# Altium schematic symbol library RESISTORS.SchLib: 145 symbols
Pins are listed as number, name and electrical type; pins without a type are passive.

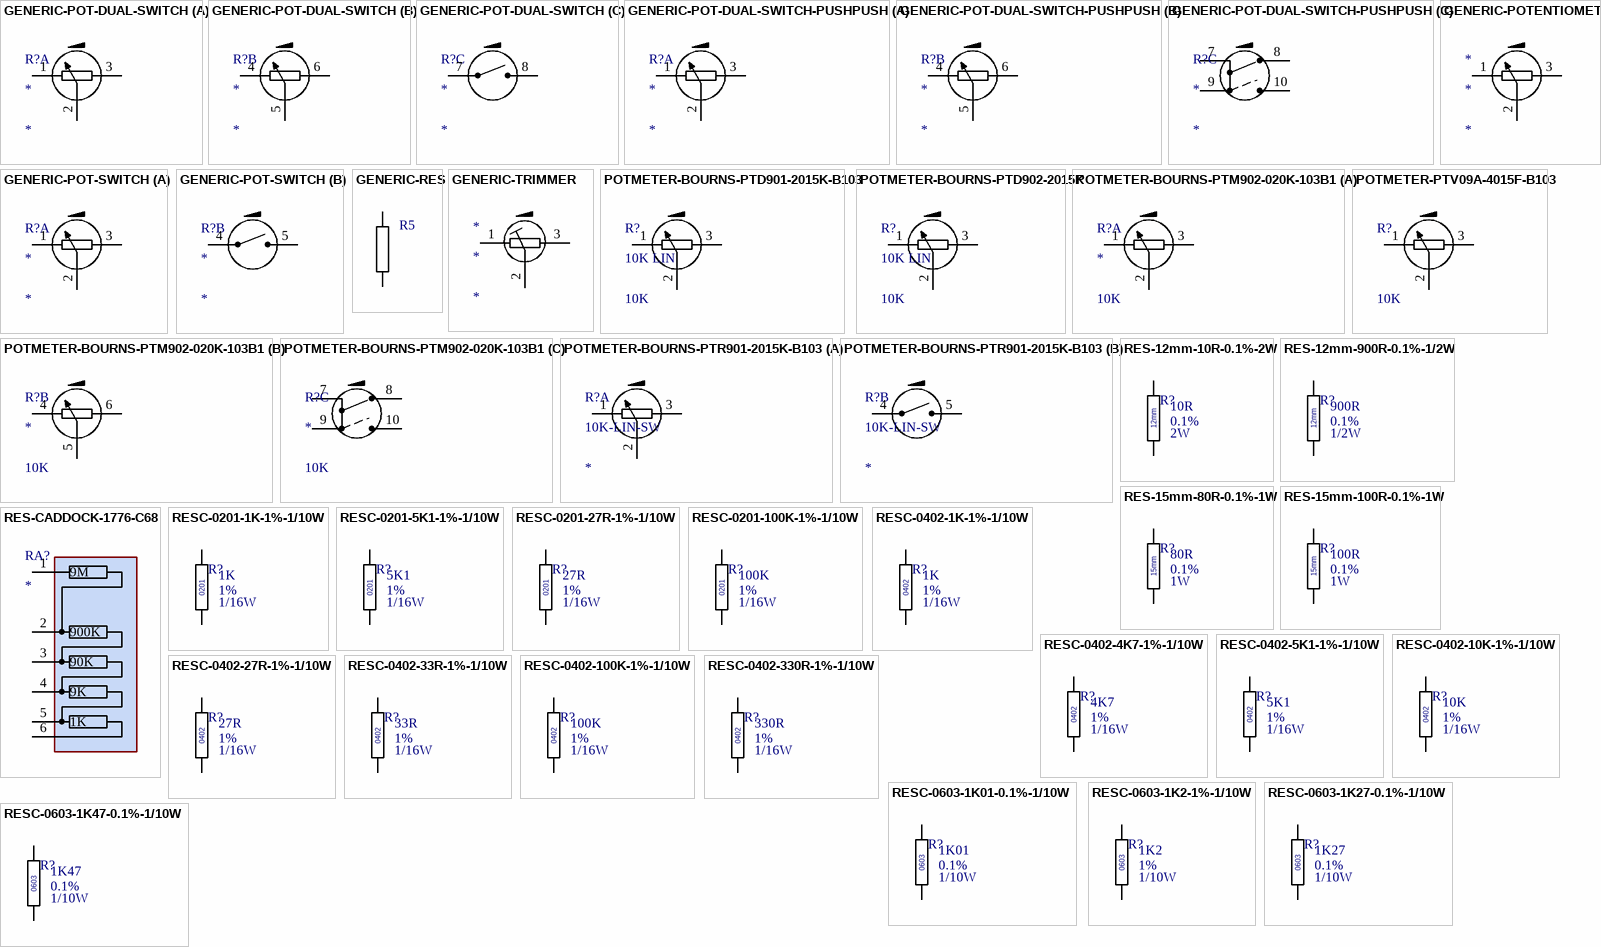
[diagram p0: symbols GENERIC-POT-DUAL-SWITCH to RESC-0603-1K47-0.1%-1/10W]

## GENERIC-POT-DUAL-SWITCH
designator R?
Value: *
part A pins: 1, 2, 3
part B pins: 4, 5, 6
part C pins: 7, 8

## GENERIC-POT-DUAL-SWITCH-PUSHPUSH
designator R?
POTENTIOMETER,DUAL,SWITCH PUSH/PUSH; Value: *
part A pins: 1, 2, 3
part B pins: 4, 5, 6
part C pins: 7, 8, 9, 10

## GENERIC-POT-SWITCH
designator R?
Value: *
part A pins: 1, 2, 3
part B pins: 4, 5

## GENERIC-POTENTIOMETER
designator *
Value: *
pins: 1, 2, 3

## GENERIC-RES
designator R5  (value not drawn)
footprint RES-YAGEO-FMP300 (YAGEO FMP300, 3W, 20mm Pitch, 6mm Body Dia)
footprint RES-YAGEO-FMP300-VERT (YAGEO FMP300, 3W, 4mm Pitch, 6mm Body Dia, VERTICAL)
pins: 1, 2

## GENERIC-TRIMMER
designator *
Value: *
pins: 1, 2, 3

## POTMETER-BOURNS-PTD901-2015K-B103
designator R?, comment 10K LIN  value 10K
RES,POT,HOR,TH,10K,LIN,BOURNS,PTD901-2015K-B103; Manufacturer 1: BOURNS; Manufacturer Part Number 1: PTD901-2015K-B103
footprint POTMETER-BOURNS-PTD901-2015K
pins: 1, 2, 3

## POTMETER-BOURNS-PTD902-2015K
designator R?, comment 10K LIN  value 10K
RES,POT,HOR,TH,10K,LIN,STEREO,BOURNS,PTD902-2015K-B103; Manufacturer 1: BOURNS; Manufacturer Part Number 1: PTD902-2015K-B103
footprint POTMETER-BOURNS-PTD902-2015K
pins: 1, 2, 3

## POTMETER-BOURNS-PTM902-020K-103B1
designator R?  value 10K
POTENTIOMETER,10K DUAL,SWITCH PUSH/PUSH
part A pins: 1, 2, 3
part B pins: 4, 5, 6
part C pins: 7, 8, 9, 10

## POTMETER-BOURNS-PTR901-2015K-B103
designator R?, comment 10K-LIN-SW
RES,POT,RA,TH,SWITCH ON/OFF,BOURNS PTR901-2015K-B103; Value: *
footprint POTMETER-BOURNS-PTR901-2X15K
part A pins: 1, 2, 3
part B pins: 4, 5

## POTMETER-PTV09A-4015F-B103
designator R?  value 10K  (hidden comment: *)
RES,POT,VERT,TH,BOURNS PTV09A-4015F,10K
footprint POTMETER-PTV09A-4015F-BXXX
pins: 1, 2, 3

## RES-12mm-10R-0.1%-2W
designator R?, comment value 10R  Power: 2W  Tolerance: 0.1%  (hidden comment: RESC1206)
RESISTOR,10R,TH12mm,0.1%,2W,0805; Manufacturer 1: VISHAY; Manufacturer Part Number 1: CPF210R000BHB14; Location: *; Parameter 4: *
footprint RESC1206 (RESISTOR, CHIP 1206 (3216))
pins: 1, 2
text: 12mm

## RES-12mm-900R-0.1%-1/2W
designator R?, comment value 900R  Power: 1/2W  Tolerance: 0.1%  (hidden comment: RESC1206)
RESISTOR,900R,TH12mm,0.1%,1/2W,0805; Manufacturer 1: VISHAY; Manufacturer Part Number 1: CMF55900R00BHEB; Location: *; Parameter 4: *
footprint RESC1206 (RESISTOR, CHIP 1206 (3216))
pins: 1, 2
text: 12mm

## RES-15mm-80R-0.1%-1W
designator R?, comment value 80R  Power: 1W  Tolerance: 0.1%  (hidden comment: RESC1206)
RESISTOR,80R,TH15mm,0.1%,1W,CMF60; Manufacturer 1: VISHAY; Manufacturer Part Number 1: CMF6080R000BHEB; Location: *; Parameter 4: *
footprint RESC1206 (RESISTOR, CHIP 1206 (3216))
pins: 1, 2
text: 15mm

## RES-15mm-100R-0.1%-1W
designator R?, comment value 100R  Power: 1W  Tolerance: 0.1%  (hidden comment: RESC1206)
RESISTOR,100R,TH15mm,0.1%,1W,CMF60; Manufacturer 1: VISHAY; Manufacturer Part Number 1: CMF60100R00BHEB; Location: *; Parameter 4: *
footprint RESC1206 (RESISTOR, CHIP 1206 (3216))
pins: 1, 2
text: 15mm

## RES-CADDOCK-1776-C68
designator RA?
CADDOCK 1776-C68 VOLTAGE DIVIDER
pins: 1 9M, 2 900K, 3 90K, 4 9K, 5 1K, 6 COM

## RESC-0201-1K-1%-1/10W
designator R?, comment value 1K  Power: 1/16W  Tolerance: 1%  (hidden comment: RESC0201)
RESISTOR,1K,1%,63mW,0201; Location: *; LCSC: C138165
footprint RESC0201 (RES, 0201 Chip Resistor, 2-Leads, Body 0.60x0.30mm, IPC High Density)
pins: 1, 2
text: 0201

## RESC-0201-5K1-1%-1/10W
designator R?, comment value 5K1  Power: 1/16W  Tolerance: 1%  (hidden comment: RESC0201)
RESISTOR,5K1,1%,63mW,0201; Location: *; LCSC: C274341
footprint RESC0201 (RES, 0201 Chip Resistor, 2-Leads, Body 0.60x0.30mm, IPC High Density)
pins: 1, 2
text: 0201

## RESC-0201-27R-1%-1/10W
designator R?, comment value 27R  Power: 1/16W  Tolerance: 1%  (hidden comment: RESC0201)
RESISTOR,27R,1%,63mW,0201; Location: *; LCSC: C473051
footprint RESC0201 (RES, 0201 Chip Resistor, 2-Leads, Body 0.60x0.30mm, IPC High Density)
pins: 1, 2
text: 0201

## RESC-0201-100K-1%-1/10W
designator R?, comment value 100K  Power: 1/16W  Tolerance: 1%  (hidden comment: RESC0201)
RESISTOR,100K,1%,63mW,0201; Location: *; LCSC: C106224
footprint RESC0201 (RES, 0201 Chip Resistor, 2-Leads, Body 0.60x0.30mm, IPC High Density)
pins: 1, 2
text: 0201

## RESC-0402-1K-1%-1/10W
designator R?, comment value 1K  Power: 1/16W  Tolerance: 1%  (hidden comment: RESC0402)
RESISTOR,1K,1%,63mW,0402 (1005); Manufacturer 1: UNIROYAL; Manufacturer Part Number 1: 0402WGF1001TCE; Location: *; LCSC: C11702
footprint RESC0402 (RESISTOR, CHIP 0402 (1005))
pins: 1, 2
text: 0402

## RESC-0402-4K7-1%-1/10W
designator R?, comment value 4K7  Power: 1/16W  Tolerance: 1%  (hidden comment: RESC0402)
RESISTOR,4K7,1%,63mW,0402 (1005); Location: *; LCSC: C105871; Supplier 1: Future Electronics; Supplier Part Number 1: 3795218
footprint RESC0402 (RESISTOR, CHIP 0402 (1005))
pins: 1, 2
text: 0402

## RESC-0402-5K1-1%-1/10W
designator R?, comment value 5K1  Power: 1/16W  Tolerance: 1%  (hidden comment: RESC0402)
RESISTOR,5K1,1%,63mW,0402 (1005); Manufacturer 1: UNIROYAL; Manufacturer Part Number 1: 0402WGF5101TCE; Location: *; LCSC: C25905
footprint RESC0402 (RESISTOR, CHIP 0402 (1005))
pins: 1, 2
text: 0402

## RESC-0402-10K-1%-1/10W
designator R?, comment value 10K  Power: 1/16W  Tolerance: 1%  (hidden comment: RESC0402)
RESISTOR,10K,1%,63mW,0402 (1005); Manufacturer 1: UNIROYAL; Manufacturer Part Number 1: 0402WGF1002TCE; Location: *; LCSC: C25744
footprint RESC0402 (RESISTOR, CHIP 0402 (1005))
pins: 1, 2
text: 0402

## RESC-0402-27R-1%-1/10W
designator R?, comment value 27R  Power: 1/16W  Tolerance: 1%  (hidden comment: RESC0402)
RESISTOR,27R,1%,63mW,0402 (1005); Location: *; Supplier 1: Future Electronics; Supplier Part Number 1: 2577120; LCSC: C138021
footprint RESC0402 (RESISTOR, CHIP 0402 (1005))
pins: 1, 2
text: 0402

## RESC-0402-33R-1%-1/10W
designator R?, comment value 33R  Power: 1/16W  Tolerance: 1%  (hidden comment: RESC0402)
RESISTOR,33R,1%,63mW,0402 (1005); Location: *; LCSC: C138002; Supplier 1: Future Electronics; Supplier Part Number 1: 8177883
footprint RESC0402 (RESISTOR, CHIP 0402 (1005))
pins: 1, 2
text: 0402

## RESC-0402-100K-1%-1/10W
designator R?, comment value 100K  Power: 1/16W  Tolerance: 1%  (hidden comment: RESC0402)
RESISTOR,100K,1%,63mW,0402 (1005); Manufacturer 1: UNIROYAL; Manufacturer Part Number 1: 0402WGF1003TCE; Location: *; LCSC: C25741
footprint RESC0402 (RESISTOR, CHIP 0402 (1005))
pins: 1, 2
text: 0402

## RESC-0402-330R-1%-1/10W
designator R?, comment value 330R  Power: 1/16W  Tolerance: 1%  (hidden comment: RESC0402)
RESISTOR,330R,1%,63mW,0402 (1005); Manufacturer 1: YAGEO; Manufacturer Part Number 1: RC0402FR-07330RL; Location: *; LCSC: C105875
footprint RESC0402 (RESISTOR, CHIP 0402 (1005))
pins: 1, 2
text: 0402

## RESC-0603-1K01-0.1%-1/10W
designator R?, comment value 1K01  Power: 1/10W  Tolerance: 0.1%  (hidden comment: RESC0603)
RESISTOR,1K01,0.1%,100mW,0603 (1608); Location: *
footprint RESC0603 (RESISTOR, CHIP 0603 (1608))
pins: 1, 2
text: 0603

## RESC-0603-1K2-1%-1/10W
designator R?, comment value 1K2  Power: 1/10W  Tolerance: 1%  (hidden comment: RESC0603)
RESISTOR,1K2,1%,100mW,0603 (1608); Manufacturer 1: STACKPOLE; Manufacturer Part Number 1: RMCF0603FT1K20; Location: *; Supplier 1: Digikey; Supplier Part Number 1: RMCF0603FT12K0CT-ND; Supplier 2: Digikey; Supplier Part Number 2: 2019-RK73H1JTTD1202FCT-ND; Supplier 3: Avnet; Supplier Part Number 3: 73AC9048; Supplier 4: Digikey; Supplier Part Number 4: 13-AC0603FR-1012KLCT-ND; MOUSER: 708-RMCF0603FT1K20
footprint RESC0603 (RESISTOR, CHIP 0603 (1608))
pins: 1, 2
text: 0603

## RESC-0603-1K27-0.1%-1/10W
designator R?, comment value 1K27  Power: 1/10W  Tolerance: 0.1%  (hidden comment: RESC0603)
RESISTOR,1K27,0.1%,100mW,0603 (1608); Location: *
footprint RESC0603 (RESISTOR, CHIP 0603 (1608))
pins: 1, 2
text: 0603

## RESC-0603-1K47-0.1%-1/10W
designator R?, comment value 1K47  Power: 1/10W  Tolerance: 0.1%  (hidden comment: RESC0603)
RESISTOR,1K47,0.1%,100mW,0603 (1608); Location: *
footprint RESC0603 (RESISTOR, CHIP 0603 (1608))
pins: 1, 2
text: 0603

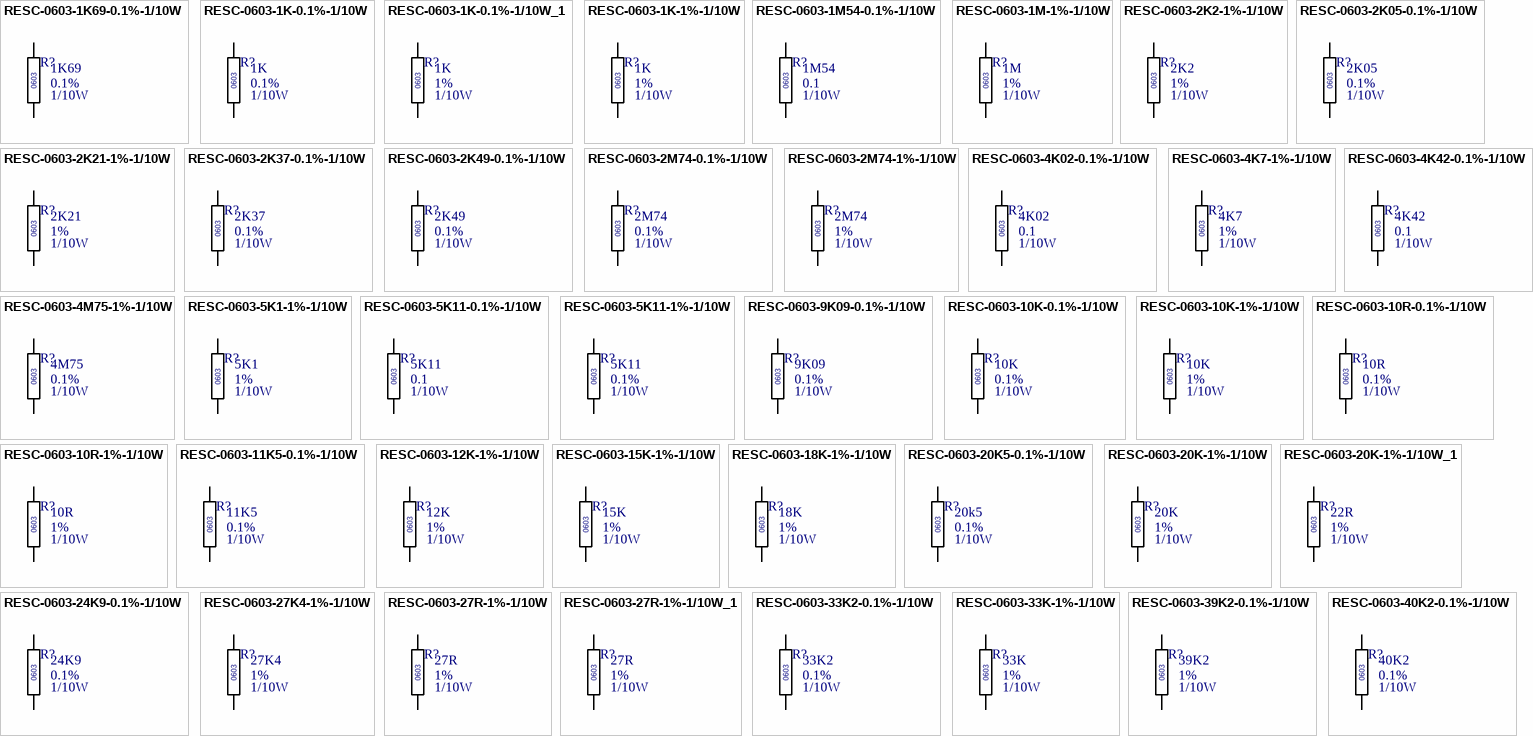
[diagram p1: symbols RESC-0603-1K69-0.1%-1/10W to RESC-0603-40K2-0.1%-1/10W]

## RESC-0603-1K69-0.1%-1/10W
designator R?, comment value 1K69  Power: 1/10W  Tolerance: 0.1%  (hidden comment: RESC0603)
RESISTOR,1K69,0.1%,100mW,0603 (1608); Location: *
footprint RESC0603 (RESISTOR, CHIP 0603 (1608))
pins: 1, 2
text: 0603

## RESC-0603-1K-0.1%-1/10W
designator R?, comment value 1K  Power: 1/10W  Tolerance: 0.1%  (hidden comment: RESC0603)
RESISTOR,1K,0.1%,100mW,0603 (1608); Location: *
footprint RESC0603 (RESISTOR, CHIP 0603 (1608))
pins: 1, 2
text: 0603

## RESC-0603-1K-0.1%-1/10W_1
designator R?, comment value 1K  Power: 1/10W  Tolerance: 1%  (hidden comment: RESC0603)
RESISTOR,1K,1%,100mW,0603 (1608); Manufacturer 1: YAGEO; Manufacturer Part Number 1: RC0603FR-071KL; Location: *; LCSC: C22548; MOUSER: 603-RC0603FR-071KL
footprint RESC0603 (RESISTOR, CHIP 0603 (1608))
pins: 1, 2
text: 0603

## RESC-0603-1K-1%-1/10W
designator R?, comment value 1K  Power: 1/10W  Tolerance: 1%  (hidden comment: RESC0603)
RESISTOR,1K,1%,100mW,0603 (1608); Manufacturer 1: YAGEO; Manufacturer Part Number 1: RC0603FR-071KL; Location: *; LCSC: C21190; MOUSER: 603-RC0603FR-071KL
footprint RESC0603 (RESISTOR, CHIP 0603 (1608))
pins: 1, 2
text: 0603

## RESC-0603-1M54-0.1%-1/10W
designator R?, comment value 1M54  Power: 1/10W  Tolerance: 0.1  (hidden comment: RESC0603)
RESISTOR,1M54,0.1%,100mW,0603 (1608); Location: *
footprint RESC0603 (RESISTOR, CHIP 0603 (1608))
pins: 1, 2
text: 0603

## RESC-0603-1M-1%-1/10W
designator R?, comment value 1M  Power: 1/10W  Tolerance: 1%  (hidden comment: RESC0603)
RESISTOR,1M,1%,100mW,0603 (1608); Location: *; Supplier 1: Future Electronics; Supplier Part Number 1: 2912863; Supplier 2: Mouser; Supplier Part Number 2: 667-ERJ-3EKF1004V; Supplier 3: Avnet; Supplier Part Number 3: 6-2176339-1; LCSC: C105578
footprint RESC0603 (RESISTOR, CHIP 0603 (1608))
pins: 1, 2
text: 0603

## RESC-0603-2K2-1%-1/10W
designator R?, comment value 2K2  Power: 1/10W  Tolerance: 1%  (hidden comment: RESC0603)
RESISTOR,2K2,1%,100mW,0603 (1608); Location: *; LCSC: C4190
footprint RESC0603 (RESISTOR, CHIP 0603 (1608))
pins: 1, 2
text: 0603

## RESC-0603-2K05-0.1%-1/10W
designator R?, comment value 2K05  Power: 1/10W  Tolerance: 0.1%  (hidden comment: RESC0603)
RESISTOR,2K05,0.11%,100mW,0603 (1608); Location: *
footprint RESC0603 (RESISTOR, CHIP 0603 (1608))
pins: 1, 2
text: 0603

## RESC-0603-2K21-1%-1/10W
designator R?, comment value 2K21  Power: 1/10W  Tolerance: 1%  (hidden comment: RESC0603)
RESISTOR,2K21,1%,100mW,0603 (1608); Location: *; LCSC: C105588; Supplier 1: Digikey; Supplier Part Number 1: 311-100HRCT-ND
footprint RESC0603 (RESISTOR, CHIP 0603 (1608))
pins: 1, 2
text: 0603

## RESC-0603-2K37-0.1%-1/10W
designator R?, comment value 2K37  Power: 1/10W  Tolerance: 0.1%  (hidden comment: RESC0603)
RESISTOR,2K37,0.1%,100mW,0603 (1608); Location: *
footprint RESC0603 (RESISTOR, CHIP 0603 (1608))
pins: 1, 2
text: 0603

## RESC-0603-2K49-0.1%-1/10W
designator R?, comment value 2K49  Power: 1/10W  Tolerance: 0.1%  (hidden comment: RESC0603)
RESISTOR,2K49,0.1%,100mW,0603 (1608); Location: *
footprint RESC0603 (RESISTOR, CHIP 0603 (1608))
pins: 1, 2
text: 0603

## RESC-0603-2M74-0.1%-1/10W
designator R?, comment value 2M74  Power: 1/10W  Tolerance: 0.1%  (hidden comment: RESC0603)
RESISTOR,2M74,0.1%,100mW,0603 (1608); Location: *
footprint RESC0603 (RESISTOR, CHIP 0603 (1608))
pins: 1, 2
text: 0603

## RESC-0603-2M74-1%-1/10W
designator R?, comment value 2M74  Power: 1/10W  Tolerance: 1%  (hidden comment: RESC0603)
RESISTOR,2M74,1%,100mW,0603 (1608); Location: *
footprint RESC0603 (RESISTOR, CHIP 0603 (1608))
pins: 1, 2
text: 0603

## RESC-0603-4K02-0.1%-1/10W
designator R?, comment value 4K02  Power: 1/10W  Tolerance: 0.1  (hidden comment: RESC0603)
RESISTOR,4K02,0.1%,100mW,0603 (1608); Location: *
footprint RESC0603 (RESISTOR, CHIP 0603 (1608))
pins: 1, 2
text: 0603

## RESC-0603-4K7-1%-1/10W
designator R?, comment value 4K7  Power: 1/10W  Tolerance: 1%  (hidden comment: RESC0603)
RESISTOR,4K7,1%,100mW,0603 (1608); Manufacturer 1: YAGEO; Manufacturer Part Number 1: RC0603FR-074K7L; Location: *; LCSC: C23162; MOUSER: 603-RC0603FR-074K7L
footprint RESC0603 (RESISTOR, CHIP 0603 (1608))
pins: 1, 2
text: 0603

## RESC-0603-4K42-0.1%-1/10W
designator R?, comment value 4K42  Power: 1/10W  Tolerance: 0.1  (hidden comment: RESC0603)
RESISTOR,4K42,0.1%,100mW,0603 (1608); Location: *
footprint RESC0603 (RESISTOR, CHIP 0603 (1608))
pins: 1, 2
text: 0603

## RESC-0603-4M75-1%-1/10W
designator R?, comment value 4M75  Power: 1/10W  Tolerance: 0.1%  (hidden comment: RESC0603)
RESISTOR,4M75,0.1%,100mW,0603 (1608); Location: *
footprint RESC0603 (RESISTOR, CHIP 0603 (1608))
pins: 1, 2
text: 0603

## RESC-0603-5K1-1%-1/10W
designator R?, comment value 5K1  Power: 1/10W  Tolerance: 1%  (hidden comment: RESC0603)
RESISTOR,5K1,1%,100mW,0603 (1608); Manufacturer 1: YAGEO; Manufacturer Part Number 1: RC0603FR-075K1L; Location: *; LCSC: C105580; MOUSER: 603-RC0603FR-075K1
footprint RESC0603 (RESISTOR, CHIP 0603 (1608))
pins: 1, 2
text: 0603

## RESC-0603-5K11-0.1%-1/10W
designator R?, comment value 5K11  Power: 1/10W  Tolerance: 0.1  (hidden comment: RESC0603)
RESISTOR,5K11,0.1%,100mW,0603 (1608); Location: *
footprint RESC0603 (RESISTOR, CHIP 0603 (1608))
pins: 1, 2
text: 0603

## RESC-0603-5K11-1%-1/10W
designator R?, comment value 5K11  Power: 1/10W  Tolerance: 0.1%  (hidden comment: RESC0603)
RESISTOR,5K11,0.1%,100mW,0603 (1608); Location: *
footprint RESC0603 (RESISTOR, CHIP 0603 (1608))
pins: 1, 2
text: 0603

## RESC-0603-9K09-0.1%-1/10W
designator R?, comment value 9K09  Power: 1/10W  Tolerance: 0.1%  (hidden comment: RESC0603)
RESISTOR,9K09,0.1%,100mW,0603 (1608); Location: *
footprint RESC0603 (RESISTOR, CHIP 0603 (1608))
pins: 1, 2
text: 0603

## RESC-0603-10K-0.1%-1/10W
designator R?, comment value 10K  Power: 1/10W  Tolerance: 0.1%  (hidden comment: RESC0603)
RESISTOR,10K,0.1%,100mW,0603 (1608); Manufacturer 1: PANASONIC; Manufacturer Part Number 1: ERA-3AEB103V; Location: *; DIGIKEY: P10KDBCT-ND
footprint RESC0603 (RESISTOR, CHIP 0603 (1608))
pins: 1, 2
text: 0603

## RESC-0603-10K-1%-1/10W
designator R?, comment value 10K  Power: 1/10W  Tolerance: 1%  (hidden comment: RESC0603)
RESISTOR,10K,1%,100mW,0603 (1608); Manufacturer 1: YAGEO; Manufacturer Part Number 1: RC0603FR-0710KL; Location: *; LCSC: C25804; MOUSER: 603-RC0603FR-0710KL
footprint RESC0603 (RESISTOR, CHIP 0603 (1608))
pins: 1, 2
text: 0603

## RESC-0603-10R-0.1%-1/10W
designator R?, comment value 10R  Power: 1/10W  Tolerance: 0.1%  (hidden comment: RESC0603)
RESISTOR,10R,0.1%,100mW,0603 (1608); Manufacturer 1: STACKPOLE; Manufacturer Part Number 1: RNCE0603BTE10R0; Location: *
footprint RESC0603 (RESISTOR, CHIP 0603 (1608))
pins: 1, 2
text: 0603

## RESC-0603-10R-1%-1/10W
designator R?, comment value 10R  Power: 1/10W  Tolerance: 1%  (hidden comment: RESC0603)
RESISTOR,10R,1%,100mW,0603 (1608); Location: *
footprint RESC0603 (RESISTOR, CHIP 0603 (1608))
pins: 1, 2
text: 0603

## RESC-0603-11K5-0.1%-1/10W
designator R?, comment value 11K5  Power: 1/10W  Tolerance: 0.1%  (hidden comment: RESC0603)
RESISTOR,11K5,0.1%,100mW,0603 (1608); Location: *
footprint RESC0603 (RESISTOR, CHIP 0603 (1608))
pins: 1, 2
text: 0603

## RESC-0603-12K-1%-1/10W
designator R?, comment value 12K  Power: 1/10W  Tolerance: 1%  (hidden comment: RESC0603)
RESISTOR,12K,1%,100mW,0603 (1608); Manufacturer 1: STACKPOLE; Manufacturer Part Number 1: RMCF0603FT12K0; Location: *; LCSC: C22790; MOUSER: 708-RMCF0603FT12K0
footprint RESC0603 (RESISTOR, CHIP 0603 (1608))
pins: 1, 2
text: 0603

## RESC-0603-15K-1%-1/10W
designator R?, comment value 15K  Power: 1/10W  Tolerance: 1%  (hidden comment: RESC0603)
RESISTOR,15K,1%,100mW,0603 (1608); Location: *
footprint RESC0603 (RESISTOR, CHIP 0603 (1608))
pins: 1, 2
text: 0603

## RESC-0603-18K-1%-1/10W
designator R?, comment value 18K  Power: 1/10W  Tolerance: 1%  (hidden comment: RESC0603)
RESISTOR,18K,1%,100mW,0603 (1608); Location: *; LCSC: C25810
footprint RESC0603 (RESISTOR, CHIP 0603 (1608))
pins: 1, 2
text: 0603

## RESC-0603-20K5-0.1%-1/10W
designator R?, comment value 20k5  Power: 1/10W  Tolerance: 0.1%  (hidden comment: RESC0603)
RESISTOR,20K5,0.1%,100mW,0603 (1608); Location: *
footprint RESC0603 (RESISTOR, CHIP 0603 (1608))
pins: 1, 2
text: 0603

## RESC-0603-20K-1%-1/10W
designator R?, comment value 20K  Power: 1/10W  Tolerance: 1%  (hidden comment: RESC0603)
RESISTOR,20K,1%,100mW,0603 (1608); Location: *; LCSC: C105588; Supplier 1: Digikey; Supplier Part Number 1: 311-100HRCT-ND
footprint RESC0603 (RESISTOR, CHIP 0603 (1608))
pins: 1, 2
text: 0603

## RESC-0603-20K-1%-1/10W_1
designator R?, comment value 22R  Power: 1/10W  Tolerance: 1%  (hidden comment: RESC0603)
RESISTOR,22R,1%,100mW,0603 (1608); Location: *; LCSC: C23345
footprint RESC0603 (RESISTOR, CHIP 0603 (1608))
pins: 1, 2
text: 0603

## RESC-0603-24K9-0.1%-1/10W
designator R?, comment value 24K9  Power: 1/10W  Tolerance: 0.1%  (hidden comment: RESC0603)
RESISTOR,24K9,0.1%,100mW,0603 (1608); Location: *
footprint RESC0603 (RESISTOR, CHIP 0603 (1608))
pins: 1, 2
text: 0603

## RESC-0603-27K4-1%-1/10W
designator R?, comment value 27K4  Power: 1/10W  Tolerance: 1%  (hidden comment: RESC0603)
RESISTOR,27K4,1%,100mW,0603 (1608); Location: *
footprint RESC0603 (RESISTOR, CHIP 0603 (1608))
pins: 1, 2
text: 0603

## RESC-0603-27R-1%-1/10W
designator R?, comment value 27R  Power: 1/10W  Tolerance: 1%  (hidden comment: RESC0603)
RESISTOR,27R,1%,100mW,0603 (1608); Manufacturer 1: YAGEO; Manufacturer Part Number 1: RC0603FR-0727RL; Location: *; LCSC: C137753; MOUSER: 603-RC0603FR-0727RL
footprint RESC0603 (RESISTOR, CHIP 0603 (1608))
pins: 1, 2
text: 0603

## RESC-0603-27R-1%-1/10W_1
designator R?, comment value 27R  Power: 1/10W  Tolerance: 1%  (hidden comment: RESC0603)
RESISTOR,27R,1%,100mW,0603 (1608); Manufacturer 1: YAGEO; Manufacturer Part Number 1: RC0603FR-0727RL; Location: *; LCSC: C137753
footprint RESC0603 (RESISTOR, CHIP 0603 (1608))
pins: 1, 2
text: 0603

## RESC-0603-33K2-0.1%-1/10W
designator R?, comment value 33K2  Power: 1/10W  Tolerance: 0.1%  (hidden comment: RESC0603)
RESISTOR,33K2,0.1%,100mW,0603 (1608); Location: *
footprint RESC0603 (RESISTOR, CHIP 0603 (1608))
pins: 1, 2
text: 0603

## RESC-0603-33K-1%-1/10W
designator R?, comment value 33K  Power: 1/10W  Tolerance: 1%  (hidden comment: RESC0603)
RESISTOR,33K,1%,100mW,0603 (1608); Location: *
footprint RESC0603 (RESISTOR, CHIP 0603 (1608))
pins: 1, 2
text: 0603

## RESC-0603-39K2-0.1%-1/10W
designator R?, comment value 39K2  Power: 1/10W  Tolerance: 1%  (hidden comment: RESC0603)
RESISTOR,39K2,0.1%,100mW,0603 (1608); Location: *
footprint RESC0603 (RESISTOR, CHIP 0603 (1608))
pins: 1, 2
text: 0603

## RESC-0603-40K2-0.1%-1/10W
designator R?, comment value 40K2  Power: 1/10W  Tolerance: 0.1%  (hidden comment: RESC0603)
RESISTOR,40K2,0.1%,100mW,0603 (1608); Location: *
footprint RESC0603 (RESISTOR, CHIP 0603 (1608))
pins: 1, 2
text: 0603

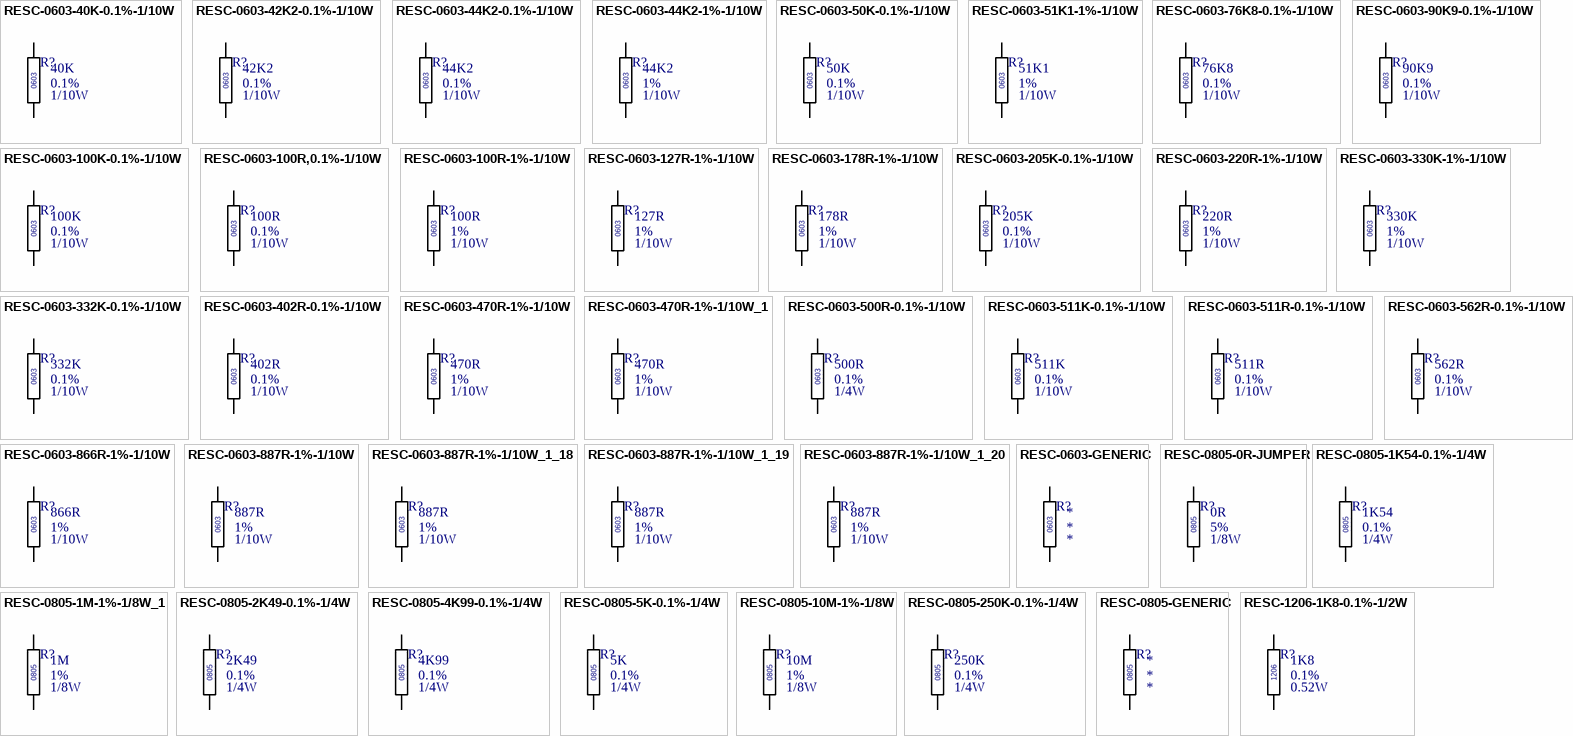
[diagram p2: symbols RESC-0603-40K-0.1%-1/10W to RESC-1206-1K8-0.1%-1/2W]

## RESC-0603-40K-0.1%-1/10W
designator R?, comment value 40K  Power: 1/10W  Tolerance: 0.1%  (hidden comment: RESC0603)
RESISTOR,40K,0.1%,100mW,0603 (1608); Manufacturer 1: YAGEO; Manufacturer Part Number 1: RT0603BRD0740KL; Location: *
footprint RESC0603 (RESISTOR, CHIP 0603 (1608))
pins: 1, 2
text: 0603

## RESC-0603-42K2-0.1%-1/10W
designator R?, comment value 42K2  Power: 1/10W  Tolerance: 0.1%  (hidden comment: RESC0603)
RESISTOR,42K2,0.1%,100mW,0603 (1608); Location: *
footprint RESC0603 (RESISTOR, CHIP 0603 (1608))
pins: 1, 2
text: 0603

## RESC-0603-44K2-0.1%-1/10W
designator R?, comment value 44K2  Power: 1/10W  Tolerance: 0.1%  (hidden comment: RESC0603)
RESISTOR,44K2,0.1%,100mW,0603 (1608); Location: *
footprint RESC0603 (RESISTOR, CHIP 0603 (1608))
pins: 1, 2
text: 0603

## RESC-0603-44K2-1%-1/10W
designator R?, comment value 44K2  Power: 1/10W  Tolerance: 1%  (hidden comment: RESC0603)
RESISTOR,44K2,1%,100mW,0603 (1608); Location: *
footprint RESC0603 (RESISTOR, CHIP 0603 (1608))
pins: 1, 2
text: 0603

## RESC-0603-50K-0.1%-1/10W
designator R?, comment value 50K  Power: 1/10W  Tolerance: 0.1%  (hidden comment: RESC0603)
RESISTOR,50K,0.1%,100mW,0603 (1608); Location: *
footprint RESC0603 (RESISTOR, CHIP 0603 (1608))
pins: 1, 2
text: 0603

## RESC-0603-51K1-1%-1/10W
designator R?, comment value 51K1  Power: 1/10W  Tolerance: 1%  (hidden comment: RESC0603)
RESISTOR,51K1,1%,100mW,0603 (1608); Location: *
footprint RESC0603 (RESISTOR, CHIP 0603 (1608))
pins: 1, 2
text: 0603

## RESC-0603-76K8-0.1%-1/10W
designator R?, comment value 76K8  Power: 1/10W  Tolerance: 0.1%  (hidden comment: RESC0603)
RESISTOR,76K8,0.1%,100mW,0603 (1608); Location: *
footprint RESC0603 (RESISTOR, CHIP 0603 (1608))
pins: 1, 2
text: 0603

## RESC-0603-90K9-0.1%-1/10W
designator R?, comment value 90K9  Power: 1/10W  Tolerance: 0.1%  (hidden comment: RESC0603)
RESISTOR,90K9,0.1%,100mW,0603 (1608); Location: *
footprint RESC0603 (RESISTOR, CHIP 0603 (1608))
pins: 1, 2
text: 0603

## RESC-0603-100K-0.1%-1/10W
designator R?, comment value 100K  Power: 1/10W  Tolerance: 0.1%  (hidden comment: RESC0603)
RESISTOR,100K,0.1%,100mW,0603 (1608); Location: *
footprint RESC0603 (RESISTOR, CHIP 0603 (1608))
pins: 1, 2
text: 0603

## RESC-0603-100R,0.1%-1/10W
designator R?, comment value 100R  Power: 1/10W  Tolerance: 0.1%  (hidden comment: RESC0603)
RESISTOR,100R,0.1%,100mW,0603 (1608); Location: *
footprint RESC0603 (RESISTOR, CHIP 0603 (1608))
pins: 1, 2
text: 0603

## RESC-0603-100R-1%-1/10W
designator R?, comment value 100R  Power: 1/10W  Tolerance: 1%  (hidden comment: RESC0603)
RESISTOR,100R,1%,100mW,0603 (1608); Location: *; LCSC: C105588; Supplier 1: Digikey; Supplier Part Number 1: 311-100HRCT-ND
footprint RESC0603 (RESISTOR, CHIP 0603 (1608))
pins: 1, 2
text: 0603

## RESC-0603-127R-1%-1/10W
designator R?, comment value 127R  Power: 1/10W  Tolerance: 1%  (hidden comment: RESC0603)
RESISTOR,127R,1%,100mW,0603 (1608); Location: *; LCSC: C105588; Supplier 1: Digikey; Supplier Part Number 1: 311-100HRCT-ND
footprint RESC0603 (RESISTOR, CHIP 0603 (1608))
pins: 1, 2
text: 0603

## RESC-0603-178R-1%-1/10W
designator R?, comment value 178R  Power: 1/10W  Tolerance: 1%  (hidden comment: RESC0603)
RESISTOR,178R,1%,100mW,0603 (1608); Location: *; LCSC: C105588; Supplier 1: Digikey; Supplier Part Number 1: 311-100HRCT-ND
footprint RESC0603 (RESISTOR, CHIP 0603 (1608))
pins: 1, 2
text: 0603

## RESC-0603-205K-0.1%-1/10W
designator R?, comment value 205K  Power: 1/10W  Tolerance: 0.1%  (hidden comment: RESC0603)
RESISTOR,205K,0.1%,100mW,0603 (1608); Location: *
footprint RESC0603 (RESISTOR, CHIP 0603 (1608))
pins: 1, 2
text: 0603

## RESC-0603-220R-1%-1/10W
designator R?, comment value 220R  Power: 1/10W  Tolerance: 1%  (hidden comment: RESC0603)
RESISTOR,220R,1%,100mW,0603 (1608); Location: *; Supplier 1: Digikey; Supplier Part Number 1: RMCF0603FT220RCT-ND; Supplier 2: Future Electronics; Supplier Part Number 2: 9705021; Supplier 3: Digikey; Supplier Part Number 3: P220HCT-ND; Supplier 4: Mouser; Supplier Part Number 4: 71-CRCW0603-220-E3
footprint RESC0603 (RESISTOR, CHIP 0603 (1608))
pins: 1, 2
text: 0603

## RESC-0603-330K-1%-1/10W
designator R?, comment value 330K  Power: 1/10W  Tolerance: 1%  (hidden comment: RESC0603)
RESISTOR,330K,1%,100mW,0603 (1608); Location: *
footprint RESC0603 (RESISTOR, CHIP 0603 (1608))
pins: 1, 2
text: 0603

## RESC-0603-332K-0.1%-1/10W
designator R?, comment value 332K  Power: 1/10W  Tolerance: 0.1%  (hidden comment: RESC0603)
RESISTOR,332K,0.1%,100mW,0603 (1608); Location: *
footprint RESC0603 (RESISTOR, CHIP 0603 (1608))
pins: 1, 2
text: 0603

## RESC-0603-402R-0.1%-1/10W
designator R?, comment value 402R  Power: 1/10W  Tolerance: 0.1%  (hidden comment: RESC0603)
RESISTOR,402R,0.1%,100mW,0603 (1608); Location: *
footprint RESC0603 (RESISTOR, CHIP 0603 (1608))
pins: 1, 2
text: 0603

## RESC-0603-470R-1%-1/10W
designator R?, comment value 470R  Power: 1/10W  Tolerance: 1%  (hidden comment: RESC0603)
RESISTOR,470R,1%,100mW,0603 (1608); Manufacturer 1: UNI-ROYAL; Manufacturer Part Number 1: 0603WAF4700T5E; Location: *; LCSC: C23179
footprint RESC0603 (RESISTOR, CHIP 0603 (1608))
pins: 1, 2
text: 0603

## RESC-0603-470R-1%-1/10W_1
designator R?, comment value 470R  Power: 1/10W  Tolerance: 1%  (hidden comment: RESC0603)
RESISTOR,470R,1%,100mW,0603 (1608); Location: *; Supplier 1: Avnet; Supplier Part Number 1: 73AC9120; Supplier 2: Mouser; Supplier Part Number 2: 71-CRCW0603470RFKEAC; Supplier 3: Digikey; Supplier Part Number 3: RMCF0603FT470RCT-ND; Supplier 4: Digikey; Supplier Part Number 4: 13-RC0603FR-13470RLCT-ND
footprint RESC0603 (RESISTOR, CHIP 0603 (1608))
pins: 1, 2
text: 0603

## RESC-0603-500R-0.1%-1/10W
designator R?, comment value 500R  Power: 1/4W  Tolerance: 0.1%  (hidden comment: RESC0603)
RESISTOR,500R,0.1%,100mW,0603; Manufacturer 1: YAGEO; Manufacturer Part Number 1: RT0603BRD07500RL; Location: *; Parameter 4: *
footprint RESC0603 (RESISTOR, CHIP 0603 (1608))
pins: 1, 2
text: 0603

## RESC-0603-511K-0.1%-1/10W
designator R?, comment value 511K  Power: 1/10W  Tolerance: 0.1%  (hidden comment: RESC0603)
RESISTOR,511K,0.1%,100mW,0603 (1608); Location: *
footprint RESC0603 (RESISTOR, CHIP 0603 (1608))
pins: 1, 2
text: 0603

## RESC-0603-511R-0.1%-1/10W
designator R?, comment value 511R  Power: 1/10W  Tolerance: 0.1%  (hidden comment: RESC0603)
RESISTOR,511R,0.1%,100mW,0603 (1608); Location: *
footprint RESC0603 (RESISTOR, CHIP 0603 (1608))
pins: 1, 2
text: 0603

## RESC-0603-562R-0.1%-1/10W
designator R?, comment value 562R  Power: 1/10W  Tolerance: 0.1%  (hidden comment: RESC0603)
RESISTOR,562R,0.1%,100mW,0603 (1608); Location: *
footprint RESC0603 (RESISTOR, CHIP 0603 (1608))
pins: 1, 2
text: 0603

## RESC-0603-866R-1%-1/10W
designator R?, comment value 866R  Power: 1/10W  Tolerance: 1%  (hidden comment: RESC0603)
RESISTOR,866R,1%,100mW,0603 (1608); Location: *
footprint RESC0603 (RESISTOR, CHIP 0603 (1608))
pins: 1, 2
text: 0603

## RESC-0603-887R-1%-1/10W
designator R?, comment value 887R  Power: 1/10W  Tolerance: 1%  (hidden comment: RESC0603)
RESISTOR,887R,1%,100mW,0603 (1608); Location: *; LCSC: C105588
footprint RESC0603 (RESISTOR, CHIP 0603 (1608))
pins: 1, 2
text: 0603

## RESC-0603-887R-1%-1/10W_1_18
designator R?, comment value 887R  Power: 1/10W  Tolerance: 1%  (hidden comment: RESC0603)
RESISTOR,887R,1%,100mW,0603 (1608); Location: *
footprint RESC0603 (RESISTOR, CHIP 0603 (1608))
pins: 1, 2
text: 0603

## RESC-0603-887R-1%-1/10W_1_19
designator R?, comment value 887R  Power: 1/10W  Tolerance: 1%  (hidden comment: RESC0603)
RESISTOR,887R,1%,100mW,0603 (1608); Location: *
footprint RESC0603 (RESISTOR, CHIP 0603 (1608))
pins: 1, 2
text: 0603

## RESC-0603-887R-1%-1/10W_1_20
designator R?, comment value 887R  Power: 1/10W  Tolerance: 1%  (hidden comment: RESC0603)
RESISTOR,887R,1%,100mW,0603 (1608); Location: *
footprint RESC0603 (RESISTOR, CHIP 0603 (1608))
pins: 1, 2
text: 0603

## RESC-0603-GENERIC
designator R?, comment RESC0603  (value not drawn)
RESISTOR,; Location: *; Parameter 4: *; Power: *; Tolerance: *; Value: *
footprint RESC0603 (RESISTOR, CHIP 0603 (1608))
pins: 1, 2
text: 0603

## RESC-0805-0R-JUMPER
designator R?, comment value 0R  Power: 1/8W  Tolerance: 5%  (hidden comment: RESC0805)
RESISTOR,0R,JUMPER; Manufacturer 1: YAGEO; Manufacturer Part Number 1: RC0805JR-070RL; Location: *; Parameter 4: *; LCSC: C96345; MOUSER: 603-RC0805JR-070RL
footprint RESC0805 (RESISTOR, CHIP 0805 (2012))
pins: 1, 2
text: 0805

## RESC-0805-1K54-0.1%-1/4W
designator R?, comment value 1K54  Power: 1/4W  Tolerance: 0.1%  (hidden comment: RESC0805)
RESISTOR,1K54,0.1%,250mW,0805; Manufacturer 1: TE; Manufacturer Part Number 1: RP73PF2A1K54BTDF; Location: *; Parameter 4: *
footprint RESC0805 (RESISTOR, CHIP 0805 (2012))
pins: 1, 2
text: 0805

## RESC-0805-1M-1%-1/8W_1
designator R?, comment value 1M  Power: 1/8W  Tolerance: 1%  (hidden comment: RESC0805)
RESISTOR,1M,1%,125mW,0805; Manufacturer 1: VISHAY; Manufacturer Part Number 1: RCV08051M00FKEA; Location: *; Parameter 4: *; MOUSER: 71-RCV08051M00FKEA
footprint RESC0805 (RESISTOR, CHIP 0805 (2012))
pins: 1, 2
text: 0805

## RESC-0805-2K49-0.1%-1/4W
designator R?, comment value 2K49  Power: 1/4W  Tolerance: 0.1%  (hidden comment: RESC0805)
RESISTOR,2K49,0.1%,250mW,0805; Manufacturer 1: TE; Manufacturer Part Number 1: RP73PF2A2K49BTDF; Location: *; Parameter 4: *
footprint RESC0805 (RESISTOR, CHIP 0805 (2012))
pins: 1, 2
text: 0805

## RESC-0805-4K99-0.1%-1/4W
designator R?, comment value 4K99  Power: 1/4W  Tolerance: 0.1%  (hidden comment: RESC0805)
RESISTOR,4K99,0.1%,250mW,0805; Manufacturer 1: SUSUMU; Manufacturer Part Number 1: RG2012P-4991-B-T5; Location: *; Parameter 4: *
footprint RESC0805 (RESISTOR, CHIP 0805 (2012))
pins: 1, 2
text: 0805

## RESC-0805-5K-0.1%-1/4W
designator R?, comment value 5K  Power: 1/4W  Tolerance: 0.1%  (hidden comment: RESC0805)
RESISTOR,5K,0.1%,250mW,0805; Manufacturer 1: BOURNS; Manufacturer Part Number 1: CRT0805-BY-5001EAS; Location: *; Parameter 4: *
footprint RESC0805 (RESISTOR, CHIP 0805 (2012))
pins: 1, 2
text: 0805

## RESC-0805-10M-1%-1/8W
designator R?, comment value 10M  Power: 1/8W  Tolerance: 1%  (hidden comment: RESC0805)
RESISTOR,10M,1%,125mW,0805; Manufacturer 1: VISHAY; Manufacturer Part Number 1: RCV080510M0FKEA; Location: *; Parameter 4: *; MOUSER: 71-RCV080510M0FKEA
footprint RESC0805 (RESISTOR, CHIP 0805 (2012))
pins: 1, 2
text: 0805

## RESC-0805-250K-0.1%-1/4W
designator R?, comment value 250K  Power: 1/4W  Tolerance: 0.1%  (hidden comment: RESC0805)
RESISTOR,250K,0.1%,250mW,0805; Manufacturer 1: STACKPOLE; Manufacturer Part Number 1: RNCF0805BTE250K; Location: *; Parameter 4: *
footprint RESC0805 (RESISTOR, CHIP 0805 (2012))
pins: 1, 2
text: 0805

## RESC-0805-GENERIC
designator R?, comment RESC0805  (value not drawn)
RESISTOR,GENERIC,0805; Location: *; Parameter 4: *; Power: *; Tolerance: *; Value: *
footprint RESC0805 (RESISTOR, CHIP 0805 (2012))
pins: 1, 2
text: 0805

## RESC-1206-1K8-0.1%-1/2W
designator R?, comment value 1K8  Power: 0.52W  Tolerance: 0.1%  (hidden comment: RESC1206)
RESISTOR,1K8,1206,0.1%,520mW,1206; Manufacturer 1: VISHAY; Manufacturer Part Number 1: TNPW12061K80BEEA; Location: *; Parameter 4: *
footprint RESC1206 (RESISTOR, CHIP 1206 (3216))
pins: 1, 2
text: 1206

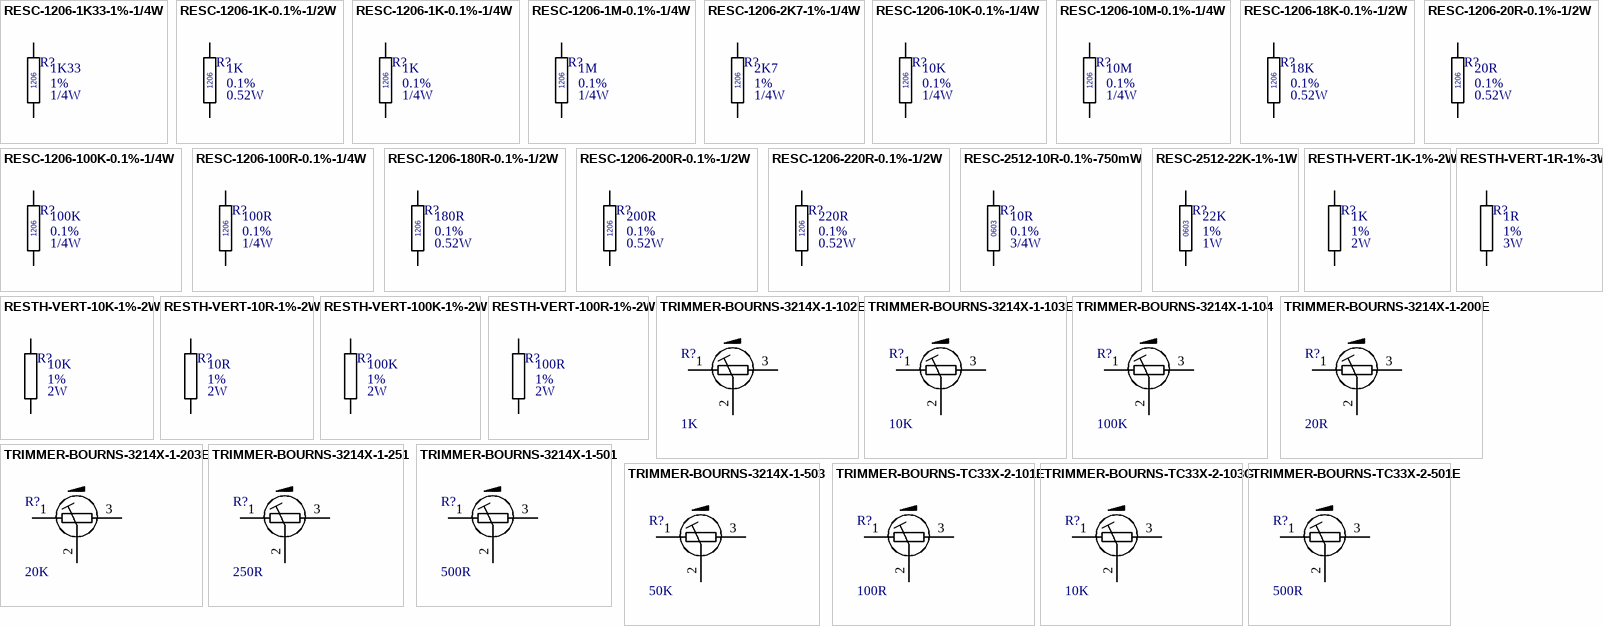
[diagram p3: symbols RESC-1206-1K33-1%-1/4W to TRIMMER-BOURNS-TC33X-2-501E]

## RESC-1206-1K33-1%-1/4W
designator R?, comment value 1K33  Power: 1/4W  Tolerance: 1%  (hidden comment: RESC1206)
RESISTOR,1K33,1206,1%,125mW,0805; Location: *; Parameter 4: *
footprint RESC1206 (RESISTOR, CHIP 1206 (3216))
pins: 1, 2
text: 1206

## RESC-1206-1K-0.1%-1/2W
designator R?, comment value 1K  Power: 0.52W  Tolerance: 0.1%  (hidden comment: RESC1206)
RESISTOR,1K,1206,0.1%,520mW,1206; Manufacturer 1: VISHAY; Manufacturer Part Number 1: TNPW12061K00BEEA; Location: *; Parameter 4: *
footprint RESC1206 (RESISTOR, CHIP 1206 (3216))
pins: 1, 2
text: 1206

## RESC-1206-1K-0.1%-1/4W
designator R?, comment value 1K  Power: 1/4W  Tolerance: 0.1%  (hidden comment: RESC1206)
RESISTOR,1K,1206,0.1%,125mW,1206; Location: *; Parameter 4: *
footprint RESC1206 (RESISTOR, CHIP 1206 (3216))
pins: 1, 2
text: 1206

## RESC-1206-1M-0.1%-1/4W
designator R?, comment value 1M  Power: 1/4W  Tolerance: 0.1%  (hidden comment: RESC1206)
RESISTOR,1M,1206,0.1%,125mW,1206; Location: *; Parameter 4: *
footprint RESC1206 (RESISTOR, CHIP 1206 (3216))
pins: 1, 2
text: 1206

## RESC-1206-2K7-1%-1/4W
designator R?, comment value 2K7  Power: 1/4W  Tolerance: 1%  (hidden comment: RESC1206)
RESISTOR,2K7,1206,1%,125mW,0805; Location: *; Parameter 4: *
footprint RESC1206 (RESISTOR, CHIP 1206 (3216))
pins: 1, 2
text: 1206

## RESC-1206-10K-0.1%-1/4W
designator R?, comment value 10K  Power: 1/4W  Tolerance: 0.1%  (hidden comment: RESC1206)
RESISTOR,10K,1206,0.1%,125mW,1206; Location: *; Parameter 4: *
footprint RESC1206 (RESISTOR, CHIP 1206 (3216))
pins: 1, 2
text: 1206

## RESC-1206-10M-0.1%-1/4W
designator R?, comment value 10M  Power: 1/4W  Tolerance: 0.1%  (hidden comment: RESC1206)
RESISTOR,10M,1206,0.1%,125mW,1206; Location: *; Parameter 4: *
footprint RESC1206 (RESISTOR, CHIP 1206 (3216))
pins: 1, 2
text: 1206

## RESC-1206-18K-0.1%-1/2W
designator R?, comment value 18K  Power: 0.52W  Tolerance: 0.1%  (hidden comment: RESC1206)
RESISTOR,18K,1206,0.1%,520mW,1206; Manufacturer 1: VISHAY; Manufacturer Part Number 1: TNPW1206220RBEEA; Location: *; Parameter 4: *
footprint RESC1206 (RESISTOR, CHIP 1206 (3216))
pins: 1, 2
text: 1206

## RESC-1206-20R-0.1%-1/2W
designator R?, comment value 20R  Power: 0.52W  Tolerance: 0.1%  (hidden comment: RESC1206)
RESISTOR,20R,1206,0.1%,520mW,1206; Manufacturer 1: VISHAY; Manufacturer Part Number 1: TNPW120620R0BEEA; Location: *; Parameter 4: *
footprint RESC1206 (RESISTOR, CHIP 1206 (3216))
pins: 1, 2
text: 1206

## RESC-1206-100K-0.1%-1/4W
designator R?, comment value 100K  Power: 1/4W  Tolerance: 0.1%  (hidden comment: RESC1206)
RESISTOR,100K,1206,0.1%,125mW,1206; Location: *; Parameter 4: *
footprint RESC1206 (RESISTOR, CHIP 1206 (3216))
pins: 1, 2
text: 1206

## RESC-1206-100R-0.1%-1/4W
designator R?, comment value 100R  Power: 1/4W  Tolerance: 0.1%  (hidden comment: RESC1206)
RESISTOR,100R,1206,0.1%,125mW,0805; Location: *; Parameter 4: *
footprint RESC1206 (RESISTOR, CHIP 1206 (3216))
pins: 1, 2
text: 1206

## RESC-1206-180R-0.1%-1/2W
designator R?, comment value 180R  Power: 0.52W  Tolerance: 0.1%  (hidden comment: RESC1206)
RESISTOR,180,1206,0.1%,520mW,1206; Manufacturer 1: VISHAY; Manufacturer Part Number 1: TNPW1206180RBEEA; Location: *; Parameter 4: *
footprint RESC1206 (RESISTOR, CHIP 1206 (3216))
pins: 1, 2
text: 1206

## RESC-1206-200R-0.1%-1/2W
designator R?, comment value 200R  Power: 0.52W  Tolerance: 0.1%  (hidden comment: RESC1206)
RESISTOR,200R,1206,0.1%,520mW,1206; Manufacturer 1: VISHAY; Manufacturer Part Number 1: TNPW1206200RBEEA; Location: *; Parameter 4: *
footprint RESC1206 (RESISTOR, CHIP 1206 (3216))
pins: 1, 2
text: 1206

## RESC-1206-220R-0.1%-1/2W
designator R?, comment value 220R  Power: 0.52W  Tolerance: 0.1%  (hidden comment: RESC1206)
RESISTOR,220R,1206,0.1%,520mW,1206; Manufacturer 1: VISHAY; Manufacturer Part Number 1: TNPW1206220RBEEA; Location: *; Parameter 4: *
footprint RESC1206 (RESISTOR, CHIP 1206 (3216))
pins: 1, 2
text: 1206

## RESC-2512-10R-0.1%-750mW
designator R?, comment value 10R  Power: 3/4W  Tolerance: 0.1%  (hidden comment: RESC0603)
RESISTOR,10R,0.1%,750mW,2512; Location: *
footprint RESC2512 (RESISTOR, CHIP 2512 (6332))
pins: 1, 2
text: 0603

## RESC-2512-22K-1%-1W
designator R?, comment value 22K  Power: 1W  Tolerance: 1%  (hidden comment: RESC0603)
RESISTOR,22K,1%,1W,2512; Manufacturer 1: STACKPOLE; Manufacturer Part Number 1: RMCF2512FT22K0; Location: *
footprint RESC2512 (RESISTOR, CHIP 2512 (6332))
pins: 1, 2
text: 0603

## RESTH-VERT-1K-1%-2W
designator R?  value 1K  Power: 2W  Tolerance: 1%  (hidden comment: RESTH-VERT-1K-1%-2W)
RESISTOR,TH,VERT,1K,1%,2W; Manufacturer 1: YAGEO; Manufacturer Part Number 1: MFR200FRF52-1K; Location: *; Parameter 4: *; DIGIKEY: 13-MFR200FRF52-1KCT-ND; MOUSER: 603-MFR200FRF52-1K
footprint RES-YAGEO-FMP300-VERT (YAGEO FMP300, 3W, 4mm Pitch, 6mm Body Dia, VERTICAL)
pins: 1, 2

## RESTH-VERT-1R-1%-3W
designator R?  value 1R  Power: 3W  Tolerance: 1%  (hidden comment: RESTH-VERT-1R-1%-3W)
RESISTOR,TH,VERT,1R,1%,3W; Manufacturer 1: YAGEO; Manufacturer Part Number 1: FMP300FRF73-1R; Location: *; Parameter 4: *; DIGIKEY: 13-FMP300FRF73-1RCT-ND; MOUSER: 603-FMP300FRF73-1R
footprint RES-YAGEO-FMP300-VERT (YAGEO FMP300, 3W, 4mm Pitch, 6mm Body Dia, VERTICAL)
pins: 1, 2

## RESTH-VERT-10K-1%-2W
designator R?  value 10K  Power: 2W  Tolerance: 1%  (hidden comment: RESTH-VERT-10K-1%-2W)
RESISTOR,TH,VERT,10K,1%,2W; Manufacturer 1: YAGEO; Manufacturer Part Number 1: FMP200FRF52-10K; Location: *; Parameter 4: *; DIGIKEY: 10KYCT-ND; MOUSER: 603-FMP200FRF52-10K
footprint RES-YAGEO-FMP300-VERT (YAGEO FMP300, 3W, 4mm Pitch, 6mm Body Dia, VERTICAL)
pins: 1, 2

## RESTH-VERT-10R-1%-2W
designator R?  value 10R  Power: 2W  Tolerance: 1%  (hidden comment: RESTH-VERT-10R-1%-2W)
RESISTOR,TH,VERT,10R,1%,2W; Manufacturer 1: YAGEO; Manufacturer Part Number 1: MFR200FRF52-10R; Location: *; Parameter 4: *; DIGIKEY: 13-MFR200FRF52-10RCT-ND; MOUSER: 603-MFR200FRF52-10R
footprint RES-YAGEO-FMP300-VERT (YAGEO FMP300, 3W, 4mm Pitch, 6mm Body Dia, VERTICAL)
pins: 1, 2

## RESTH-VERT-100K-1%-2W
designator R?  value 100K  Power: 2W  Tolerance: 1%  (hidden comment: RESTH-VERT-100K-1%-2W)
RESISTOR,TH,VERT,100K,1%,2W; Manufacturer 1: YAGEO; Manufacturer Part Number 1: MFR200FRF52-100K; Location: *; Parameter 4: *; DIGIKEY: 13-MFR200FRF52-100KCT-ND; MOUSER: 603-MFR200FRF52-100K
footprint RES-YAGEO-FMP300-VERT (YAGEO FMP300, 3W, 4mm Pitch, 6mm Body Dia, VERTICAL)
pins: 1, 2

## RESTH-VERT-100R-1%-2W
designator R?  value 100R  Power: 2W  Tolerance: 1%  (hidden comment: RESTH-VERT-100R-1%-2W)
RESISTOR,TH,VERT,100R,1%,2W; Manufacturer 1: YAGEO; Manufacturer Part Number 1: FMP200FRF52-100R; Location: *; Parameter 4: *; DIGIKEY: 100YCT-ND; MOUSER: 603-FMP200FRF52-100R
footprint RES-YAGEO-FMP300-VERT (YAGEO FMP300, 3W, 4mm Pitch, 6mm Body Dia, VERTICAL)
pins: 1, 2

## TRIMMER-BOURNS-3214X-1-102E
designator R?  value 1K  (hidden comment: *)
RESISTOR,MULTITURN,VERTICAL,5T,1K; Manufacturer 1: BOURNS; Manufacturer Part Number 1: 3214X-1-102E
footprint TRIMMER-BOURNS-3214X (RESSITOR,TRIMMER,BOURNS,3214X FAMILY)
pins: 1, 2, 3

## TRIMMER-BOURNS-3214X-1-103E
designator R?  value 10K  (hidden comment: *)
RESISTOR,MULTITURN,VERTICAL,5T,10K; Manufacturer 1: BOURNS; Manufacturer Part Number 1: 3214X-1-102E
footprint TRIMMER-BOURNS-3214X (RESSITOR,TRIMMER,BOURNS,3214X FAMILY)
pins: 1, 2, 3

## TRIMMER-BOURNS-3214X-1-104
designator R?  value 100K  (hidden comment: *)
RESISTOR,MULTITURN,VERTICAL,5T,100K; Manufacturer 1: BOURNS; Manufacturer Part Number 1: 3214X-1-102E
footprint TRIMMER-BOURNS-3214X (RESSITOR,TRIMMER,BOURNS,3214X FAMILY)
pins: 1, 2, 3

## TRIMMER-BOURNS-3214X-1-200E
designator R?  value 20R  (hidden comment: *)
RESISTOR,MULTITURN,VERTICAL,5T,20R; Manufacturer 1: BOURNS; Manufacturer Part Number 1: 3214X-1-200E
footprint TRIMMER-BOURNS-3214X (RESSITOR,TRIMMER,BOURNS,3214X FAMILY)
pins: 1, 2, 3

## TRIMMER-BOURNS-3214X-1-203E
designator R?  value 20K  (hidden comment: *)
RESISTOR,MULTITURN,VERTICAL,5T,20K; Manufacturer 1: BOURNS; Manufacturer Part Number 1: 3214X-1-203E
footprint TRIMMER-BOURNS-3214X (RESSITOR,TRIMMER,BOURNS,3214X FAMILY)
pins: 1, 2, 3

## TRIMMER-BOURNS-3214X-1-251
designator R?  value 250R  (hidden comment: *)
RESISTOR,MULTITURN,VERTICAL,5T,250R; Manufacturer 1: BOURNS; Manufacturer Part Number 1: 3214X-1-102E
footprint TRIMMER-BOURNS-3214X (RESSITOR,TRIMMER,BOURNS,3214X FAMILY)
pins: 1, 2, 3

## TRIMMER-BOURNS-3214X-1-501
designator R?  value 500R  (hidden comment: *)
RESISTOR,MULTITURN,VERTICAL,5T,500R; Manufacturer 1: BOURNS; Manufacturer Part Number 1: 3214X-1-501E
footprint TRIMMER-BOURNS-3214X (RESSITOR,TRIMMER,BOURNS,3214X FAMILY)
pins: 1, 2, 3

## TRIMMER-BOURNS-3214X-1-503
designator R?  value 50K  (hidden comment: *)
RESISTOR,MULTITURN,VERTICAL,5T,50K; Manufacturer 1: BOURNS; Manufacturer Part Number 1: 3214X-1-102E
footprint TRIMMER-BOURNS-3214X (RESSITOR,TRIMMER,BOURNS,3214X FAMILY)
pins: 1, 2, 3

## TRIMMER-BOURNS-TC33X-2-101E
designator R?  value 100R  (hidden comment: *)
RES,TRIM,SMD,100R; Manufacturer 1: BOURNS; Manufacturer Part Number 1: TC33X-2-101E; MOUSER: 652-TC33X-2-101E
footprint TRIMMER-BOURNS-TC33
pins: 1, 2, 3

## TRIMMER-BOURNS-TC33X-2-103G
designator R?  value 10K  (hidden comment: *)
RES,TRIM,SMD,10K; Manufacturer 1: BOURNS; Manufacturer Part Number 1: TC33X-2-103G; MOUSER: 652-TC33X-2-103G
footprint TRIMMER-BOURNS-TC33
pins: 1, 2, 3

## TRIMMER-BOURNS-TC33X-2-501E
designator R?  value 500R  (hidden comment: *)
RES,TRIM,SMD,500R; Manufacturer 1: BOURNS; Manufacturer Part Number 1: TC33X-2-501E; MOUSER: 652-TC33X-2-101E
footprint TRIMMER-BOURNS-TC33
pins: 1, 2, 3